# Altium footprint library RESM6438X317N.PcbLib: 1 footprints
Each footprint in its own frame and in the unit in brackets; x right, y up, seen from the top. Pads: shape width x height; smd on the part's side, far side on the other; paste and mask are expansions set on the pad; w line width, h text height; cw(c..) or ccw(c..) is an arc to the next point about the centre after c.
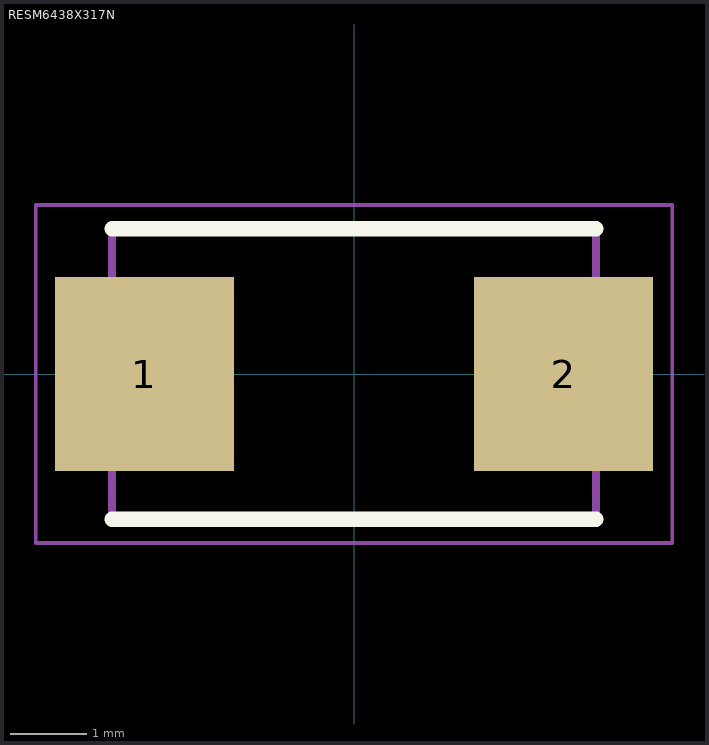
[diagram p0: the footprint, top view; thin cyan lines are the x and y axes]

## RESM6438X317N [mm]
pads (2):
  rect 2.35x2.55 smd: 1(-2.75,0) 2(2.75,0)
Top Overlay:
  lines w0.2: -3.175,-1.905 3.175,-1.905 ; -3.175,1.905 3.175,1.905
Mechanical 15:
  lines w0.1: -3.175,-1.905 3.175,-1.905 3.175,1.905 -3.175,1.905 -3.175,-1.905
Mechanical 20:
  lines w0.05: -4.175,-2.218 4.175,-2.218 4.175,2.218 -4.175,2.218 -4.175,-2.218